# Altium footprint library ul_CX5032GB08000H0HPQZ1.PcbLib: 3 footprints
Each footprint in its own frame and in the unit in brackets; x right, y up, seen from the top. Pads: shape width x height; smd on the part's side, far side on the other; paste and mask are expansions set on the pad; w line width, h text height; cw(c..) or ccw(c..) is an arc to the next point about the centre after c.
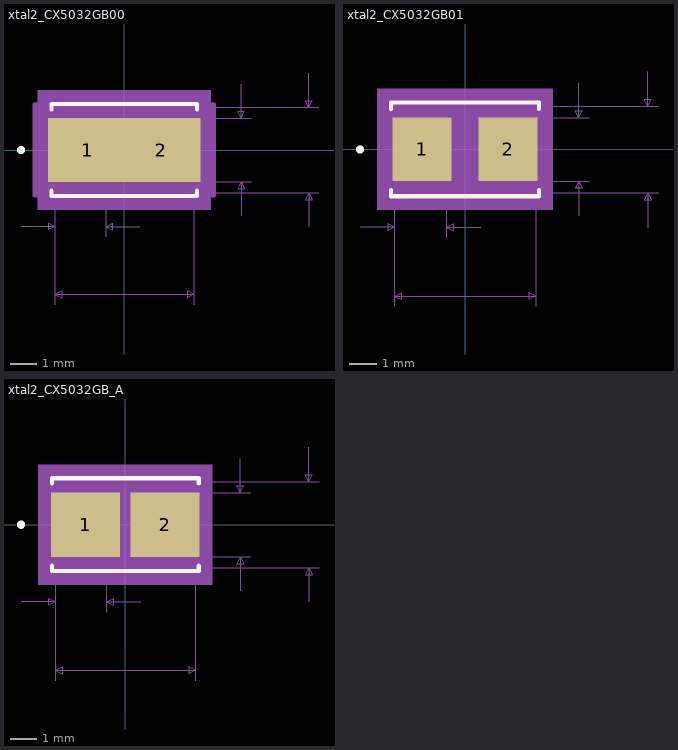
[diagram p0: the footprints below, top view; thin cyan lines are the x and y axes]

## xtal2_CX5032GB00 [mil]
pads (2):
  rect 116.34x94 smd paste+0 mask+0: 1(-54.17,0) 2(54.17,0)
Top Overlay:
  circle w6: c-152.5,0 r3
  lines w6: -107.5,-60.1 -107.5,-68 107.5,-68 107.5,-60.1 ; -107.5,60.1 -107.5,68 107.5,68 107.5,60.1
Mechanical 5:
  region: 127.5,-88 -127.5,-88 -127.5,88 127.5,88
Mechanical 7:
  lines w1: -152.5,-113 -102.5,-113 ; -102.5,-228 -102.5,0 -102.5,-128 ; -27.5,-128 -27.5,0 ; 22.5,-113 -27.5,-113 ; 102.5,-228 102.5,0 ; 122.34,-63 287.34,-63 ; 122.34,-47 187.34,-47 ; 122.34,47 187.34,47 ; 122.34,63 287.34,63 ; 172.34,-97 172.34,-47 ; 172.34,97 172.34,47 ; 272.34,-113 272.34,-63 ; 272.34,113 272.34,63 ; -102.5,-213 102.5,-213 ; -102.5,-213 -92.5,-208 -92.5,-218 -102.5,-213 ; -102.5,-113 -112.5,-108 -112.5,-118 -102.5,-113 ; -27.5,-113 -17.5,-108 -17.5,-118 -27.5,-113 ; 102.5,-213 92.5,-208 92.5,-218 102.5,-213 ; 172.34,-47 167.34,-57 177.34,-57 172.34,-47 ; 172.34,47 167.34,57 177.34,57 172.34,47 ; 272.34,-63 267.34,-73 277.34,-73 272.34,-63 ; 272.34,63 267.34,73 277.34,73 272.34,63
  text "Default Padstyle: r296_239" at -325,-313 h50
  text "Alt 1 Padstyle: b152_229h76" at -337.5,-388 h50
  text "Alt 2 Padstyle: b229_152h76" at -337.5,-463 h50
  text "0.094in/2.388mm" at 192.34,-12.5 h25
  text "0.126in/3.2mm" at 292.34,-12.5 h25
  text "0.205in/5.207mm" at -93.75,-258 h25
  text "0.075in/1.905mm" at -158.75,-158 h25
Mechanical 13:
  circle w0: c-82.5,0 r3
  lines w1: -112.5,-73 -112.5,73 112.5,73 112.5,-73 -112.5,-73 ; -102.5,-63 102.5,-63 102.5,63 -102.5,63 -102.5,-63
Mechanical 15:
  region: -122.5,-67 -132.5,-67 -132.5,67 -122.5,67 -122.5,83 122.5,83 122.5,67 132.5,67 132.5,-67 122.5,-67 122.5,-83 -122.5,-83
  lines w6: -132.5,-67 -132.5,67 -122.5,67 -122.5,83 122.5,83 122.5,67 132.5,67 132.5,-67 122.5,-67 122.5,-83 -122.5,-83 -122.5,-67 -132.5,-67
3D body: height 10, standoff 0, extent 0,0 10,10

## xtal2_CX5032GB01 [mm]
pads (2):
  rect 2.175x2.338 smd paste+0 mask+0: 1(-1.586,0) 2(1.586,0)
Top Overlay:
  circle w0.152: c-3.873,0 r0.076
  lines w0.152: -2.73,-1.497 -2.73,-1.727 2.73,-1.727 2.73,-1.497 ; -2.73,1.497 -2.73,1.727 2.73,1.727 2.73,1.497
Mechanical 5:
  region: 3.238,-2.235 -3.238,-2.235 -3.238,2.235 3.238,2.235
Mechanical 7:
  lines w0.025: -3.873,-2.87 -2.603,-2.87 ; -2.603,-5.791 -2.603,0 -2.603,-3.251 ; -0.699,-3.251 -0.699,0 ; 0.572,-2.87 -0.699,-2.87 ; 2.603,-5.791 2.603,0 ; 2.927,-1.6 7.118,-1.6 ; 2.927,-1.169 4.578,-1.169 ; 2.927,1.169 4.578,1.169 ; 2.927,1.6 7.118,1.6 ; 4.197,-2.439 4.197,-1.169 ; 4.197,2.439 4.197,1.169 ; 6.737,-2.87 6.737,-1.6 ; 6.737,2.87 6.737,1.6 ; -2.603,-5.41 2.603,-5.41 ; -2.603,-5.41 -2.349,-5.283 -2.349,-5.537 -2.603,-5.41 ; -2.603,-2.87 -2.857,-2.743 -2.857,-2.997 -2.603,-2.87 ; -0.699,-2.87 -0.445,-2.743 -0.445,-2.997 -0.699,-2.87 ; 2.603,-5.41 2.349,-5.283 2.349,-5.537 2.603,-5.41 ; 4.197,-1.169 4.07,-1.423 4.324,-1.423 4.197,-1.169 ; 4.197,1.169 4.07,1.423 4.324,1.423 4.197,1.169 ; 6.737,-1.6 6.61,-1.854 6.864,-1.854 6.737,-1.6 ; 6.737,1.6 6.61,1.854 6.864,1.854 6.737,1.6
  text "Default Padstyle: r218_234" at -8.255,-7.95 h1.27
  text "Alt 1 Padstyle: b152_229h76" at -8.572,-9.855 h1.27
  text "Alt 2 Padstyle: b229_152h76" at -8.572,-11.76 h1.27
  text "0.094in/2.388mm" at 4.705,-0.318 h0.64
  text "0.126in/3.2mm" at 7.245,-0.318 h0.64
  text "0.205in/5.207mm" at -2.381,-6.553 h0.64
  text "0.075in/1.905mm" at -4.032,-4.013 h0.64
Mechanical 13:
  circle w0: c-2.095,0 r0.076
  lines w0.025: -2.857,-1.854 -2.857,1.854 2.857,1.854 2.857,-1.854 -2.857,-1.854 ; -2.603,-1.6 2.603,-1.6 2.603,1.6 -2.603,1.6 -2.603,-1.6
Mechanical 15:
  region: -2.705,-1.27 -2.959,-1.27 -2.959,1.27 -2.705,1.27 -2.705,1.702 2.705,1.702 2.705,1.27 2.959,1.27 2.959,-1.27 2.705,-1.27 2.705,-1.702 -2.705,-1.702
  lines w0.152: -2.959,-1.27 -2.959,1.27 -2.705,1.27 -2.705,1.702 2.705,1.702 2.705,1.27 2.959,1.27 2.959,-1.27 2.705,-1.27 2.705,-1.702 -2.705,-1.702 -2.705,-1.27 -2.959,-1.27
3D body: height 0.25, standoff 0, extent 0,0 0.254,0.254

## xtal2_CX5032GB_A [mil]
pads (2):
  rect 100.59x94 smd paste+0 mask+0: 1(-58.11,0) 2(58.11,0)
Top Overlay:
  circle w6: c-152.5,0 r3
  lines w6: -107.5,-60.1 -107.5,-68 107.5,-68 107.5,-60.1 ; -107.5,60.1 -107.5,68 107.5,68 107.5,60.1
Mechanical 5:
  region: 127.5,-88 -127.5,-88 -127.5,88 127.5,88
Mechanical 7:
  lines w1: -152.5,-113 -102.5,-113 ; -102.5,-228 -102.5,0 -102.5,-128 ; -27.5,-128 -27.5,0 ; 22.5,-113 -27.5,-113 ; 102.5,-228 102.5,0 ; 118.41,-63 283.41,-63 ; 118.41,-47 183.41,-47 ; 118.41,47 183.41,47 ; 118.41,63 283.41,63 ; 168.41,-97 168.41,-47 ; 168.41,97 168.41,47 ; 268.41,-113 268.41,-63 ; 268.41,113 268.41,63 ; -102.5,-213 102.5,-213 ; -102.5,-213 -92.5,-208 -92.5,-218 -102.5,-213 ; -102.5,-113 -112.5,-108 -112.5,-118 -102.5,-113 ; -27.5,-113 -17.5,-108 -17.5,-118 -27.5,-113 ; 102.5,-213 92.5,-208 92.5,-218 102.5,-213 ; 168.41,-47 163.41,-57 173.41,-57 168.41,-47 ; 168.41,47 163.41,57 173.41,57 168.41,47 ; 268.41,-63 263.41,-73 273.41,-73 268.41,-63 ; 268.41,63 263.41,73 273.41,73 268.41,63
  text "Default Padstyle: r255_239" at -325,-313 h50
  text "Alt 1 Padstyle: b152_229h76" at -337.5,-388 h50
  text "Alt 2 Padstyle: b229_152h76" at -337.5,-463 h50
  text "0.094in/2.388mm" at 188.41,-12.5 h25
  text "0.126in/3.2mm" at 288.41,-12.5 h25
  text "0.205in/5.207mm" at -93.75,-258 h25
  text "0.075in/1.905mm" at -158.75,-158 h25
Mechanical 13:
  circle w0: c-82.5,0 r3
  lines w1: -112.5,-73 -112.5,73 112.5,73 112.5,-73 -112.5,-73 ; -102.5,-63 102.5,-63 102.5,63 -102.5,63 -102.5,-63
Mechanical 15:
  region: -112.5,-57 -122.5,-57 -122.5,57 -112.5,57 -112.5,73 112.5,73 112.5,57 122.5,57 122.5,-57 112.5,-57 112.5,-73 -112.5,-73
  lines w6: -122.5,-57 -122.5,57 -112.5,57 -112.5,73 112.5,73 112.5,57 122.5,57 122.5,-57 112.5,-57 112.5,-73 -112.5,-73 -112.5,-57 -122.5,-57
3D body: height 10, standoff 0, extent 0,0 10,10